# Altium schematic symbol library ShuntRegu_ST_TS431AILT.SchLib: 1 symbol
Pins are listed as number, name and electrical type; pins without a type are passive.

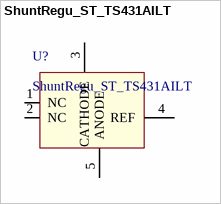
[diagram p0: symbol ShuntRegu_ST_TS431AILT]

## ShuntRegu_ST_TS431AILT
designator U?
pins: 1 NC, 2 NC, 3 CATHODE, 4 REF, 5 ANODE